# EAGLE library part MCP2551 (library microchip)
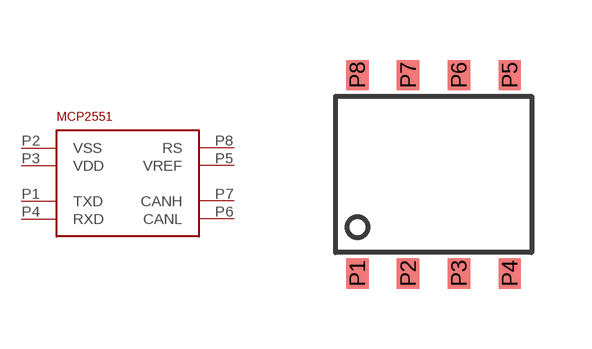
[diagram p143: symbol with the pads of SOIC_8; footprint SOIC_8]

Designator prefix -

## MCP2551  [SOIC_8]
P1  TXD
P2  VSS
P3  VDD
P4  RXD
P5  VREF
P6  CANL
P7  CANH
P8  RS

## Footprint SOIC_8 (pad centres in mm)
smd 0.559 x 0.762: P1 0,-4.966; P2 1.27,-4.966; P3 2.54,-4.966; P4 3.81,-4.966; P5 3.81,0; P6 2.54,0; P7 1.27,0; P8 0,0